# Altium integrated library Infineon_Power_MOSFET.IntLib: 1448 symbols (part 17 of 47)
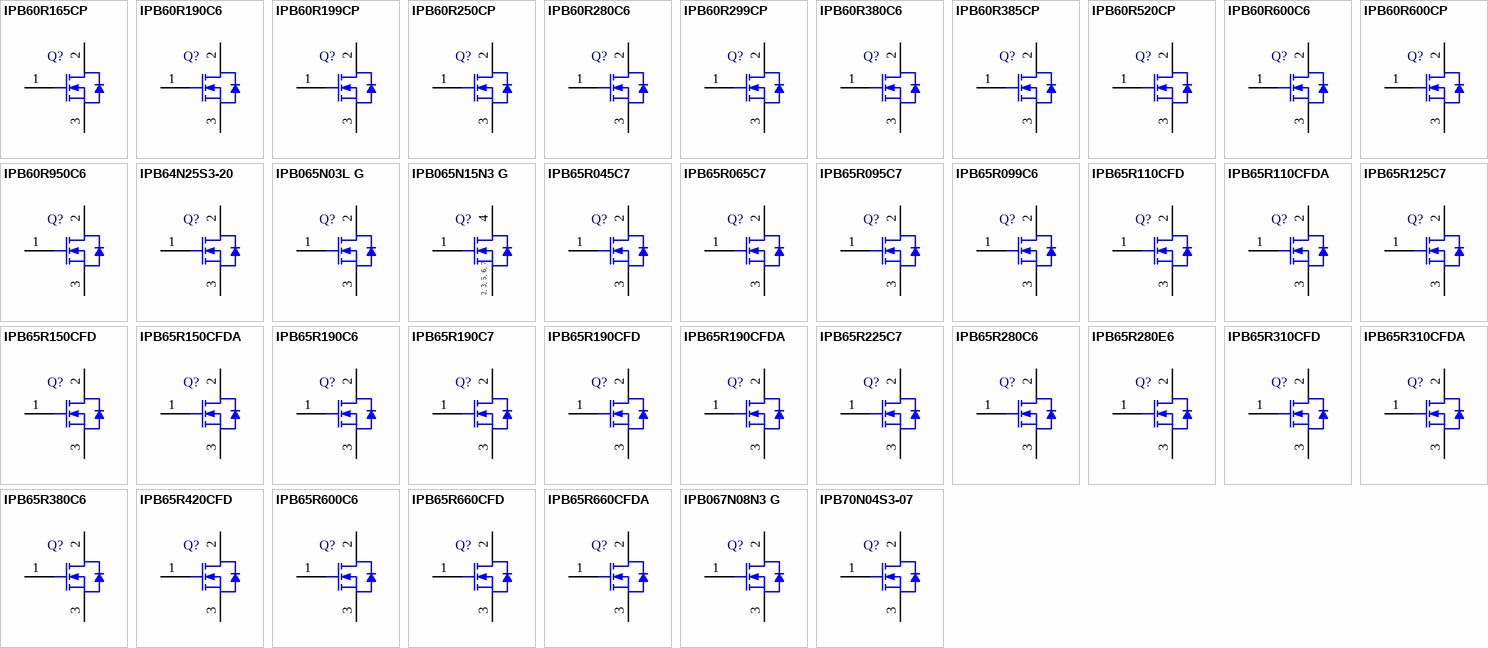
[diagram p53: symbols IPB60R165CP to IPB70N04S3-07]

## IPB60R600C6
designator Q?
N-Channel CoolMOS C6 Power-Transistor, 600 V VDS, 7.3 A ID, -55 to 150 degC, PG-TO263-3-2, Reel, Green; Manufacturer: Infineon; PartNumber: IPB60R600C6; Green: TRUE; ID (max): 7.3 A; IDpuls (max): 19 A; Polarity: N; Ptot (max): 63 W; QG: 20.5 nC; RDS (on) (max): 600 mOhm; Rth: 2 K/W; RthJA (max): 62 K/W; VDS (max): 600 V; VGS(th) (max): 3.5 V; VGS(th) (min): 2.5 V; DatasheetVersion: Rev. 2.0; PackageVersion: Jul-09; PackageReference: PG-TO263-3-2; PackageDescription: 3-Pin Plastic (Green) Transistor Single Outline Package, 10 x 9.25 mm Body, 2.54 mm Pitch; Supplier 1: Mouser; Supplier Part Number 1: 726-IPB60R600C6; Supplier 2: Digi-Key; Supplier Part Number 2: IPB60R600C6TR-ND; Supplier 3: Digi-Key; Supplier Part Number 3: IPB60R600C6CT-ND; Supplier 4: Digi-Key; Supplier Part Number 4: IPB60R600C6DKR-ND; Halogen-free: TRUE; Packing: Reel; RthJC (max): 2 K/W; Technology: CoolMOS C6; Mounting Technology: Surface Mount; ComponentLink1Description: Manufacturer URL; ComponentLink1URL: http://www.infineon.com/; ComponentLink2Description: Datasheet; ComponentLink2URL: http://www.infineon.com/dgdl/IPB60R600C6_2_0.pdf?folderId=db3a30431ff98815012019af55de3f2c&fileId=db3a30432239cccd0122977458e7441a; ComponentLink3Description: Package Specification; ComponentLink3URL: http://www.infineon.com/dgdl/BTS141TC_DS_10.pdf?folderId=db3a3043163797a6011667aa084c0e01&fileId=db3a3043242ebc9e01242f43f58b003e&location=en.Products.Automotive_ICs.Smart_High-_and_Low-Side_Switches.HITFET___TEMPFET__-_Smart_Low-Side_Switches.DATASHEET.BTS141TC_DS_10.pdf
footprint INF-PG-TO263-3-2_N (DPAK, 3-Leads, Body 10x9.25mm, Pitch 2.54mm, IPC Medium Density)
footprint INF-PG-TO263-3-2_L (DPAK, 3-Leads, Body 10x9.25mm, Pitch 2.54mm, IPC High Density)
footprint INF-PG-TO263-3-2_M (DPAK, 3-Leads, Body 10x9.25mm, Pitch 2.54mm, IPC Low Density)
pins: 1 GATE, 2 DRAIN, 3 SOURCE

## IPB60R600CP
designator Q?
N-Channel CoolMOS Power-Transistor, 600 V VDS, 6.1 A ID, -55 to 150 degC, PG-TO263-3-2, Reel, Green; Manufacturer: Infineon; PartNumber: IPB60R600CP; Green: TRUE; ID (max): 6.1 A; IDpuls (max): 15 A; Polarity: N; Ptot (max): 60 W; QG: 21 nC; RDS (on) (max): 600 mOhm; Rth: 2.1 K/W; RthJA (max): 62 K/W; VDS (max): 600 V; VGS(th) (max): 3.5 V; VGS(th) (min): 2.5 V; DatasheetVersion: Rev. 2.0; PackageVersion: Jul-09; PackageReference: PG-TO263-3-2; PackageDescription: 3-Pin Plastic (Green) Transistor Single Outline Package, 10 x 9.25 mm Body, 2.54 mm Pitch; Supplier 1: Mouser; Supplier Part Number 1: 726-IPB60R600CP; Supplier 2: Newark; Supplier Part Number 2: 33P7140; Supplier 3: Farnell; Supplier Part Number 3: 1664023RL; Supplier 4: Farnell; Supplier Part Number 4: 1664023; Supplier 5: Digi-Key; Supplier Part Number 5: IPB60R600CPTR-ND; Supplier 6: Digi-Key; Supplier Part Number 6: IPB60R600CPCT-ND; Supplier 7: Digi-Key; Supplier Part Number 7: IPB60R600CPDKR-ND; Halogen-free: TRUE; Packing: Reel; RthJC (max): 2.1 K/W; Technology: CoolMOS CP; Mounting Technology: Surface Mount; ComponentLink1Description: Manufacturer URL; ComponentLink1URL: http://www.infineon.com/; ComponentLink2Description: Datasheet; ComponentLink2URL: http://www.infineon.com/dgdl/IPB60R600CP_rev2.0.pdf?folderId=db3a3043163797a6011637d4bae7003b&fileId=db3a3043183a95550118792f22ec0462; ComponentLink3Description: Package Specification; ComponentLink3URL: http://www.infineon.com/dgdl/BTS141TC_DS_10.pdf?folderId=db3a3043163797a6011667aa084c0e01&fileId=db3a3043242ebc9e01242f43f58b003e&location=en.Products.Automotive_ICs.Smart_High-_and_Low-Side_Switches.HITFET___TEMPFET__-_Smart_Low-Side_Switches.DATASHEET.BTS141TC_DS_10.pdf
footprint INF-PG-TO263-3-2_N (DPAK, 3-Leads, Body 10x9.25mm, Pitch 2.54mm, IPC Medium Density)
footprint INF-PG-TO263-3-2_L (DPAK, 3-Leads, Body 10x9.25mm, Pitch 2.54mm, IPC High Density)
footprint INF-PG-TO263-3-2_M (DPAK, 3-Leads, Body 10x9.25mm, Pitch 2.54mm, IPC Low Density)
pins: 1 GATE, 2 DRAIN, 3 SOURCE

## IPB60R950C6
designator Q?
N-Channel CoolMOS C6 Power-Transistor, 600 V VDS, 4.4 A ID, -55 to 150 degC, PG-TO263-3-1, Reel, Green; Manufacturer: Infineon; PartNumber: IPB60R950C6; Green: TRUE; ID (max): 4.4 A; IDpuls (max): 12 A; Polarity: N; Ptot (max): 37 W; QG: 13 nC; RDS (on) (max): 950 mOhm; Rth: 3.41 K/W; RthJA (max): 62 K/W; VDS (max): 600 V; VGS(th) (max): 3.5 V; VGS(th) (min): 2.5 V; DatasheetVersion: Rev. 2.1; PackageVersion: Jan-10; PackageReference: PG-TO263-3-1; PackageDescription: 3-Pin Plastic (Green) Transistor Single Outline Package, 10 x 9.25 mm Body, 2.54 mm Pitch; Supplier 1: Mouser; Supplier Part Number 1: 726-IPB60R950C6; Supplier 2: Farnell; Supplier Part Number 2: 1860809; Supplier 3: Digi-Key; Supplier Part Number 3: IPB60R950C6TR-ND; Supplier 4: Digi-Key; Supplier Part Number 4: IPB60R950C6CT-ND; Supplier 5: Digi-Key; Supplier Part Number 5: IPB60R950C6DKR-ND; Halogen-free: TRUE; Packing: Reel; RthJC (max): 3.41 K/W; Technology: CoolMOS C6; Mounting Technology: Surface Mount; ComponentLink1Description: Manufacturer URL; ComponentLink1URL: http://www.infineon.com/; ComponentLink2Description: Datasheet; ComponentLink2URL: http://www.infineon.com/dgdl/IPB60R950C6_2.1.pdf?folderId=db3a30431ff98815012019af55de3f2c&fileId=db3a30432239cccd0122a8282c217d66; ComponentLink3Description: Package Specification; ComponentLink3URL: http://www.infineon.com/dgdl/TLE42744_DS_11.pdf?folderId=db3a304318f3fe290118f5a433570040&fileId=db3a304327b897500128012ccafe37d2&sId=db3a30443d67b5ca013d83f7c0ea327b
footprint INF-PG-TO263-3-1_N (DPAK, 3-Leads, Body 10x9.25mm, Pitch 2.54mm, IPC Medium Density)
footprint INF-PG-TO263-3-1_L (DPAK, 3-Leads, Body 10x9.25mm, Pitch 2.54mm, IPC High Density)
footprint INF-PG-TO263-3-1_M (DPAK, 3-Leads, Body 10x9.25mm, Pitch 2.54mm, IPC Low Density)
pins: 1 GATE, 2 DRAIN, 3 SOURCE

## IPB64N25S3-20
designator Q?
OptiMOS-T Power-Transistor, 250 V VDS, 64 A ID, PG-TO263-3-2, Green; Manufacturer: Infineon; PartNumber: IPB64N25S3-20; Green: TRUE; ID (max): 64 A; IDpuls (max): 256 A; Ptot (max): 300 W; QG: 67 nC; RDS (on) (max) (@10V): 20 mOhm; RthJC (max): 0.5 K/W; VDS (max): 250 V; VGS(th) (max): 4 V; VGS(th) (min): 2 V; DatasheetVersion: Rev. 1.0; PackageVersion: Jul-09; PackageReference: PG-TO263-3-2; PackageDescription: 3-Pin Plastic (Green) Transistor Single Outline Package, 10 x 9.25 mm Body, 2.54 mm Pitch; Supplier 1: Mouser; Supplier Part Number 1: 726-IPB64N25S3-20; Halogen-free: TRUE; Technology: OptiMOS-T; Mounting Technology: Surface Mount; ComponentLink1Description: Manufacturer URL; ComponentLink1URL: http://www.infineon.com/; ComponentLink2Description: Datasheet; ComponentLink2URL: http://www.infineon.com/dgdl/IPP_B_I64N25S3-20_DS_10.pdf?folderId=db3a30433b92f0e8013b9377b6270147&fileId=db3a30433b92f0e8013b937af6620149&location=en.Products.Automotive_ICs.Automotive_MOSFETs.Single__N-Channel_250V_MOSFETs.DATASHEET.IPP_B_I64N25S3-20_DS_10.pdf; ComponentLink3Description: Package Specification; ComponentLink3URL: http://www.infineon.com/dgdl/BTS141TC_DS_10.pdf?folderId=db3a3043163797a6011667aa084c0e01&fileId=db3a3043242ebc9e01242f43f58b003e&location=en.Products.Automotive_ICs.Smart_High-_and_Low-Side_Switches.HITFET___TEMPFET__-_Smart_Low-Side_Switches.DATASHEET.BTS141TC_DS_10.pdf
footprint INF-PG-TO263-3-2_N (DPAK, 3-Leads, Body 10x9.25mm, Pitch 2.54mm, IPC Medium Density)
footprint INF-PG-TO263-3-2_L (DPAK, 3-Leads, Body 10x9.25mm, Pitch 2.54mm, IPC High Density)
footprint INF-PG-TO263-3-2_M (DPAK, 3-Leads, Body 10x9.25mm, Pitch 2.54mm, IPC Low Density)
pins: 1 GATE, 2 DRAIN, 3 SOURCE

## IPB065N03L G
designator Q?
N-Channel OptiMOS 3 Power-Transistor, 30 V VDS, 50 A ID, -55 to 175 degC, PG-TO-263-3-2, Reel, Green; Manufacturer: Infineon; PartNumber: IPB065N03L G; Green: TRUE; ID (max): 50 A; IDpuls (max): 350 A; Polarity: N; Ptot (max): 56 W; QG: 23 nC; RDS (on) (max): 6.5 mOhm; RDS (on) (max) (@4.5V): 9.5 mOhm; Rth: 2.7 K/W; RthJA (max): 62 K/W; VDS (max): 30 V; VGS(th) (max): 2.2 V; VGS(th) (min): 1 V; DatasheetVersion: Rev. 2.0; PackageVersion: Rev. 01, 08/2007; PackageReference: PG-TO-263-3-2; PackageDescription: 3-Pin Plastic (Green) Transistor Single Outline Package, 10.06 x 8.98 mm Body, 2.54 mm Pitch; Supplier 1: Mouser; Supplier Part Number 1: 726-IPB065N03LG; Supplier 2: Newark; Supplier Part Number 2: 47W3466; Supplier 3: Farnell; Supplier Part Number 3: 2212897; Supplier 4: Digi-Key; Supplier Part Number 4: IPB065N03LGINTR-ND; Supplier 5: Digi-Key; Supplier Part Number 5: IPB065N03LGINCT-ND; Supplier 6: Digi-Key; Supplier Part Number 6: IPB065N03LGINDKR-ND; Halogen-free: TRUE; Packing: Reel; RthJC (max): 2.7 K/W; Mounting Technology: Surface Mount; ComponentLink1Description: Manufacturer URL; ComponentLink1URL: http://www.infineon.com/; ComponentLink2Description: Datasheet; ComponentLink2URL: http://www.infineon.com/dgdl/IPP065N03L_rev2.pdf?folderId=db3a30431441fb5d01148c401f250e27&fileId=db3a30431441fb5d011492371ebc0fe2; ComponentLink3Description: Package Specification; ComponentLink3URL: http://www.infineon.com/dgdl/IPB026N06N_Rev2.2.pdf?folderId=db3a304313b8b5a60113cee8763b02d7&fileId=db3a3043372d5cc8013754c7b2a74f7c
footprint INF-PG-TO-263-3-2_A_N (DPAK, 3-Leads, Body 10.06x8.98mm, Pitch 2.54mm, IPC Medium Density)
footprint INF-PG-TO-263-3-2_A_L (DPAK, 3-Leads, Body 10.06x8.98mm, Pitch 2.54mm, IPC High Density)
footprint INF-PG-TO-263-3-2_A_M (DPAK, 3-Leads, Body 10.06x8.98mm, Pitch 2.54mm, IPC Low Density)
pins: 1 GATE, 2 DRAIN, 3 SOURCE

## IPB065N15N3 G
designator Q?
N-Channel OptiMOS 3 Power-Transistor, 150 V VDS, 130 A ID, -55 to 175 degC, PG-TO-263-7-2, Reel, Green; Manufacturer: Infineon; PartNumber: IPB065N15N3 G; Green: TRUE; ID (max): 130 A; IDpuls (max): 520 A; Polarity: N; Ptot (max): 300 W; QG: 70 nC; RDS (on) (max): 6.5 mOhm; Rth: 0.5 K/W; RthJA (max): 62 K/W; VDS (max): 150 V; VGS(th) (max): 4 V; VGS(th) (min): 2 V; DatasheetVersion: Rev. 2.1; PackageVersion: Rev. 01, 11/2007; PackageReference: PG-TO-263-7-2; PackageDescription: 7-Pin Plastic (Green) Transistor Single Outline Package, 10.1 x 8.98 mm Body, 1.27 mm Pitch; Supplier 1: Digi-Key; Supplier Part Number 1: IPB065N15N3 GTR-ND; Supplier 2: Digi-Key; Supplier Part Number 2: IPB065N15N3 GCT-ND; Supplier 3: Digi-Key; Supplier Part Number 3: IPB065N15N3 GDKR-ND; Halogen-free: TRUE; Packing: Reel; RthJC (max): 0.5 K/W; Mounting Technology: Surface Mount; ComponentLink1Description: Manufacturer URL; ComponentLink1URL: http://www.infineon.com/; ComponentLink2Description: Datasheet; ComponentLink2URL: http://www.infineon.com/dgdl/IPB065N15N3+G_Rev2.1.pdf?folderId=db3a304326623792012669f6bee2224b&fileId=db3a30432662379201266a0379d1225c; ComponentLink3Description: Package Specification; ComponentLink3URL: http://www.infineon.com/dgdl/BTS621L1_20030922.pdf?folderId=db3a30431400ef68011421b54e2e0564&fileId=db3a304333227b5e0133258247c72ecc&sId=db3a30433d68e984013d8539603e0d72
footprint INF-PG-TO-263-7-2_N (DPAK, 7-Leads, Body 10.1x8.98mm, Pitch 1.27mm, IPC Medium Density)
footprint INF-PG-TO-263-7-2_L (DPAK, 7-Leads, Body 10.1x8.98mm, Pitch 1.27mm, IPC High Density)
footprint INF-PG-TO-263-7-2_M (DPAK, 7-Leads, Body 10.1x8.98mm, Pitch 1.27mm, IPC Low Density)
pins: 1 GATE, 2 SOURCE, 3 SOURCE, 4 DRAIN, 5 SOURCE, 6 SOURCE, 7 SOURCE
text: 2, 3, 5, 6, 7

## IPB65R045C7
designator Q?
N-Channel CoolMOS(TM) C7 Power Transistor, 650 V VDS, -55 to 150 degC, PG-TO263-3, Reel, Green; Manufacturer: Infineon; PartNumber: IPB65R045C7; Green: TRUE; Polarity: FALSE; RDS (on) (max): 45 mOhm; VDS (max): 650 V; DatasheetVersion: Rev. 2.1; PackageVersion: Rev. 01, 08/2007; PackageReference: PG-TO263-3-2_A; PackageDescription: 3-Pin Plastic (Green) Transistor Single Outline Package, 10.1 x 8.98 mm Body, 2.54 mm Pitch; Supplier 1: Mouser; Supplier Part Number 1: 726-IPB65R045C7; Halogen-free: TRUE; Packing: Reel; Mounting Technology: Surface Mount; ComponentLink1Description: Manufacturer URL; ComponentLink1URL: http://www.infineon.com/; ComponentLink2Description: Datasheet; ComponentLink2URL: http://www.infineon.com/dgdl/DS_IPB65R045C7_2_1.pdf?folderId=db3a3043163797a6011637d4bae7003b&fileId=db3a30433e78ea82013e790478550043; ComponentLink3Description: Package Specification; ComponentLink3URL: http://www.infineon.com/dgdl/IPI65R280E6_2_0.pdf?folderId=db3a3043163797a6011637d4bae7003b&fileId=5546d46145f1f3a4014618e6c4f81afe
footprint INF-PG-TO263-3-2_A_N (DPAK, 3-Leads, Body 10.1x8.98mm, Pitch 2.54mm, IPC Medium Density)
footprint INF-PG-TO263-3-2_A_L (DPAK, 3-Leads, Body 10.1x8.98mm, Pitch 2.54mm, IPC High Density)
footprint INF-PG-TO263-3-2_A_M (DPAK, 3-Leads, Body 10.1x8.98mm, Pitch 2.54mm, IPC Low Density)
pins: 1 GATE, 2 DRAIN, 3 SOURCE

## IPB65R065C7
designator Q?
N-Channel CoolMOS(TM) C7 Power Transistor, 650 V VDS, -55 to 150 degC, PG-TO263-3, Reel, Green; Manufacturer: Infineon; PartNumber: IPB65R065C7; Green: TRUE; Polarity: FALSE; RDS (on) (max): 65 mOhm; VDS (max): 650 V; DatasheetVersion: Rev. 2.0; PackageVersion: Rev. 01, 08/2007; PackageReference: PG-TO263-3-2_A; PackageDescription: 3-Pin Plastic (Green) Transistor Single Outline Package, 10.1 x 8.98 mm Body, 2.54 mm Pitch; Halogen-free: TRUE; Packing: Reel; Mounting Technology: Surface Mount; ComponentLink1Description: Manufacturer URL; ComponentLink1URL: http://www.infineon.com/; ComponentLink2Description: Datasheet; ComponentLink2URL: http://www.infineon.com/dgdl/DS_IPB65R065C7_2_0.pdf?folderId=db3a3043156fd5730115c736bcc70ff2&fileId=db3a304341e0aed001420483e2ab1788; ComponentLink3Description: Package Specification; ComponentLink3URL: http://www.infineon.com/dgdl/IPI65R280E6_2_0.pdf?folderId=db3a3043163797a6011637d4bae7003b&fileId=5546d46145f1f3a4014618e6c4f81afe
footprint INF-PG-TO263-3-2_A_N (DPAK, 3-Leads, Body 10.1x8.98mm, Pitch 2.54mm, IPC Medium Density)
footprint INF-PG-TO263-3-2_A_L (DPAK, 3-Leads, Body 10.1x8.98mm, Pitch 2.54mm, IPC High Density)
footprint INF-PG-TO263-3-2_A_M (DPAK, 3-Leads, Body 10.1x8.98mm, Pitch 2.54mm, IPC Low Density)
pins: 1 GATE, 2 DRAIN, 3 SOURCE

## IPB65R095C7
designator Q?
N-Channel CoolMOS(TM) C7 Power Transistor, 650 V VDS, -55 to 150 degC, PG-TO263-3, Reel, Green; Manufacturer: Infineon; PartNumber: IPB65R095C7; Green: TRUE; Polarity: FALSE; RDS (on) (max): 95 mOhm; VDS (max): 650 V; DatasheetVersion: Rev. 2.0; PackageVersion: Rev. 01, 08/2007; PackageReference: PG-TO263-3-2_A; PackageDescription: 3-Pin Plastic (Green) Transistor Single Outline Package, 10.1 x 8.98 mm Body, 2.54 mm Pitch; Halogen-free: TRUE; Packing: Reel; Mounting Technology: Surface Mount; ComponentLink1Description: Manufacturer URL; ComponentLink1URL: http://www.infineon.com/; ComponentLink2Description: Datasheet; ComponentLink2URL: http://www.infineon.com/dgdl/DS_IPB65R095C7_2_0.pdf?folderId=db3a3043163797a6011637d4bae7003b&fileId=db3a30434208e5fd0142092311ad00e6; ComponentLink3Description: Package Specification; ComponentLink3URL: http://www.infineon.com/dgdl/IPI65R280E6_2_0.pdf?folderId=db3a3043163797a6011637d4bae7003b&fileId=5546d46145f1f3a4014618e6c4f81afe
footprint INF-PG-TO263-3-2_A_N (DPAK, 3-Leads, Body 10.1x8.98mm, Pitch 2.54mm, IPC Medium Density)
footprint INF-PG-TO263-3-2_A_L (DPAK, 3-Leads, Body 10.1x8.98mm, Pitch 2.54mm, IPC High Density)
footprint INF-PG-TO263-3-2_A_M (DPAK, 3-Leads, Body 10.1x8.98mm, Pitch 2.54mm, IPC Low Density)
pins: 1 GATE, 2 DRAIN, 3 SOURCE

## IPB65R099C6
designator Q?
N-Channel CoolMOS C6 Power-Transistor, 650 V VDS, 38 A ID, -55 to 150 degC, PG-TO263-3-2, Reel, Green; Manufacturer: Infineon; PartNumber: IPB65R099C6; Green: TRUE; ID (max): 38 A; IDpuls (max): 115 A; Polarity: N; Ptot (max): 278 W; QG: 127 nC; RDS (on) (max): 99 mOhm; Rth: 0.45 K/W; RthJA (max): 62 K/W; VDS (max): 650 V; VGS(th) (max): 3.5 V; VGS(th) (min): 2.5 V; DatasheetVersion: Rev. 2.0; PackageVersion: Jul-09; PackageReference: PG-TO263-3-2; PackageDescription: 3-Pin Plastic (Green) Transistor Single Outline Package, 10 x 9.25 mm Body, 2.54 mm Pitch; Halogen-free: TRUE; Packing: Reel; RthJC (max): 0.45 K/W; Technology: CoolMOS C6; Mounting Technology: Surface Mount; ComponentLink1Description: Manufacturer URL; ComponentLink1URL: http://www.infineon.com/; ComponentLink2Description: Datasheet; ComponentLink2URL: http://www.infineon.com/dgdl/IPB65R099C6.pdf?folderId=db3a3043163797a6011637d4bae7003b&fileId=db3a3043341f67a10134410f8a40503d; ComponentLink3Description: Package Specification; ComponentLink3URL: http://www.infineon.com/dgdl/BTS141TC_DS_10.pdf?folderId=db3a3043163797a6011667aa084c0e01&fileId=db3a3043242ebc9e01242f43f58b003e&location=en.Products.Automotive_ICs.Smart_High-_and_Low-Side_Switches.HITFET___TEMPFET__-_Smart_Low-Side_Switches.DATASHEET.BTS141TC_DS_10.pdf
footprint INF-PG-TO263-3-2_N (DPAK, 3-Leads, Body 10x9.25mm, Pitch 2.54mm, IPC Medium Density)
footprint INF-PG-TO263-3-2_L (DPAK, 3-Leads, Body 10x9.25mm, Pitch 2.54mm, IPC High Density)
footprint INF-PG-TO263-3-2_M (DPAK, 3-Leads, Body 10x9.25mm, Pitch 2.54mm, IPC Low Density)
pins: 1 GATE, 2 DRAIN, 3 SOURCE

## IPB65R110CFD
designator Q?
N-Channel CoolMOS CFD2 Power-Transistor, 650 V VDS, 31.2 A ID, -55 to 150 degC, PG-TO263-3-2, Reel, Green; Manufacturer: Infineon; PartNumber: IPB65R110CFD; Green: TRUE; ID (max): 31.2 A; IDpuls (max): 99.6 A; Polarity: N; QG: 118 nC; RDS (on) (max): 110 mOhm; Rth: 0.45 K/W; RthJA (max): 62 K/W; VDS (max): 650 V; VGS(th) (max): 4.5 V; VGS(th) (min): 3.5 V; DatasheetVersion: Rev. 2.6; PackageVersion: Jul-09; PackageReference: PG-TO263-3-2; PackageDescription: 3-Pin Plastic (Green) Transistor Single Outline Package, 10 x 9.25 mm Body, 2.54 mm Pitch; Supplier 1: Mouser; Supplier Part Number 1: 726-IPB65R110CFD; Supplier 2: Digi-Key; Supplier Part Number 2: IPB65R110CFDTR-ND; Supplier 3: Digi-Key; Supplier Part Number 3: IPB65R110CFDCT-ND; Supplier 4: Digi-Key; Supplier Part Number 4: IPB65R110CFDDKR-ND; Halogen-free: TRUE; Packing: Reel; RthJC (max): 0.45 K/W; Technology: CoolMOS CFD2; Mounting Technology: Surface Mount; ComponentLink1Description: Manufacturer URL; ComponentLink1URL: http://www.infineon.com/; ComponentLink2Description: Datasheet; ComponentLink2URL: http://www.infineon.com/dgdl/DS_IPX65R110CFD_2_61.pdf?folderId=db3a3043156fd5730115c736bcc70ff2&fileId=db3a30433004641301306abd8e2041b1; ComponentLink3Description: Package Specification; ComponentLink3URL: http://www.infineon.com/dgdl/BTS141TC_DS_10.pdf?folderId=db3a3043163797a6011667aa084c0e01&fileId=db3a3043242ebc9e01242f43f58b003e&location=en.Products.Automotive_ICs.Smart_High-_and_Low-Side_Switches.HITFET___TEMPFET__-_Smart_Low-Side_Switches.DATASHEET.BTS141TC_DS_10.pdf
footprint INF-PG-TO263-3-2_N (DPAK, 3-Leads, Body 10x9.25mm, Pitch 2.54mm, IPC Medium Density)
footprint INF-PG-TO263-3-2_L (DPAK, 3-Leads, Body 10x9.25mm, Pitch 2.54mm, IPC High Density)
footprint INF-PG-TO263-3-2_M (DPAK, 3-Leads, Body 10x9.25mm, Pitch 2.54mm, IPC Low Density)
pins: 1 GATE, 2 DRAIN, 3 SOURCE

## IPB65R110CFDA
designator Q?
N-Channel CoolMOS CFDA Power-Transistor, 650 V VDS, 31.2 A ID, -40 to 150 degC, PG-TO263-3-2, Reel, Green; Manufacturer: Infineon; PartNumber: IPB65R110CFDA; Green: TRUE; ID (max): 31.2 A; IDpuls (max): 99.6 A; Polarity: N; Ptot (max): 277.8 W; QG: 118 nC; RDS (on) (max): 110 mOhm; Rth: 0.45 K/W; RthJA (max): 62 K/W; VDS (max): 650 V; VGS(th) (max): 4.5 V; VGS(th) (min): 3.5 V; DatasheetVersion: Rev. 2.0; PackageVersion: Jul-09; PackageReference: PG-TO263-3-2; PackageDescription: 3-Pin Plastic (Green) Transistor Single Outline Package, 10 x 9.25 mm Body, 2.54 mm Pitch; Halogen-free: TRUE; Packing: Reel; RthJC (max): 0.45 K/W; Technology: CoolMOS CFDA; Mounting Technology: Surface Mount; ComponentLink1Description: Manufacturer URL; ComponentLink1URL: http://www.infineon.com/; ComponentLink2Description: Datasheet; ComponentLink2URL: http://www.infineon.com/dgdl/DS_IPX65R110CFDA_2_0.pdf?folderId=db3a3043163797a6011637d4bae7003b&fileId=db3a304336797ff90136ba7c820925a5; ComponentLink3Description: Package Specification; ComponentLink3URL: http://www.infineon.com/dgdl/BTS141TC_DS_10.pdf?folderId=db3a3043163797a6011667aa084c0e01&fileId=db3a3043242ebc9e01242f43f58b003e&location=en.Products.Automotive_ICs.Smart_High-_and_Low-Side_Switches.HITFET___TEMPFET__-_Smart_Low-Side_Switches.DATASHEET.BTS141TC_DS_10.pdf
footprint INF-PG-TO263-3-2_N (DPAK, 3-Leads, Body 10x9.25mm, Pitch 2.54mm, IPC Medium Density)
footprint INF-PG-TO263-3-2_L (DPAK, 3-Leads, Body 10x9.25mm, Pitch 2.54mm, IPC High Density)
footprint INF-PG-TO263-3-2_M (DPAK, 3-Leads, Body 10x9.25mm, Pitch 2.54mm, IPC Low Density)
pins: 1 GATE, 2 DRAIN, 3 SOURCE

## IPB65R125C7
designator Q?
N-Channel CoolMOS(TM) C7 Power Transistor, 650 V VDS, -55 to 150 degC, PG-TO263-3, Reel, Green; Manufacturer: Infineon; PartNumber: IPB65R125C7; Green: TRUE; Polarity: FALSE; RDS (on) (max): 125 mOhm; VDS (max): 650 V; DatasheetVersion: Rev. 2.0; PackageVersion: Rev. 01, 08/2007; PackageReference: PG-TO263-3-2_A; PackageDescription: 3-Pin Plastic (Green) Transistor Single Outline Package, 10.1 x 8.98 mm Body, 2.54 mm Pitch; Halogen-free: TRUE; Packing: Reel; Mounting Technology: Surface Mount; ComponentLink1Description: Manufacturer URL; ComponentLink1URL: http://www.infineon.com/; ComponentLink2Description: Datasheet; ComponentLink2URL: http://www.infineon.com/dgdl/DS_IPB65R125C7_2_0.pdf?folderId=db3a3043163797a6011637d4bae7003b&fileId=db3a30434208e5fd0142094d378001a5; ComponentLink3Description: Package Specification; ComponentLink3URL: http://www.infineon.com/dgdl/IPI65R280E6_2_0.pdf?folderId=db3a3043163797a6011637d4bae7003b&fileId=5546d46145f1f3a4014618e6c4f81afe
footprint INF-PG-TO263-3-2_A_N (DPAK, 3-Leads, Body 10.1x8.98mm, Pitch 2.54mm, IPC Medium Density)
footprint INF-PG-TO263-3-2_A_L (DPAK, 3-Leads, Body 10.1x8.98mm, Pitch 2.54mm, IPC High Density)
footprint INF-PG-TO263-3-2_A_M (DPAK, 3-Leads, Body 10.1x8.98mm, Pitch 2.54mm, IPC Low Density)
pins: 1 GATE, 2 DRAIN, 3 SOURCE

## IPB65R150CFD
designator Q?
N-Channel CoolMOS CFD2 Power-Transistor, 650 V VDS, 22.4 A ID, -55 to 150 degC, PG-TO263-3-2, Reel, Green; Manufacturer: Infineon; PartNumber: IPB65R150CFD; Green: TRUE; ID (max): 22.4 A; IDpuls (max): 72 A; Polarity: N; Ptot (max): 195.3 W; QG: 86 nC; RDS (on) (max): 150 mOhm; Rth: 0.64 K/W; RthJA (max): 62 K/W; VDS (max): 650 V; VGS(th) (max): 4.5 V; VGS(th) (min): 3.5 V; DatasheetVersion: Rev. 2.0; PackageVersion: Jul-09; PackageReference: PG-TO263-3-2; PackageDescription: 3-Pin Plastic (Green) Transistor Single Outline Package, 10 x 9.25 mm Body, 2.54 mm Pitch; Halogen-free: TRUE; Packing: Reel; RthJC (max): 0.64 K/W; Technology: CoolMOS CFD2; Mounting Technology: Surface Mount; ComponentLink1Description: Manufacturer URL; ComponentLink1URL: http://www.infineon.com/; ComponentLink2Description: Datasheet; ComponentLink2URL: http://www.infineon.com/dgdl/DS_IPX65R150CFD__2_01.pdf?folderId=db3a3043156fd5730115c736bcc70ff2&fileId=db3a3043338c8ac80133ace218433063; ComponentLink3Description: Package Specification; ComponentLink3URL: http://www.infineon.com/dgdl/BTS141TC_DS_10.pdf?folderId=db3a3043163797a6011667aa084c0e01&fileId=db3a3043242ebc9e01242f43f58b003e&location=en.Products.Automotive_ICs.Smart_High-_and_Low-Side_Switches.HITFET___TEMPFET__-_Smart_Low-Side_Switches.DATASHEET.BTS141TC_DS_10.pdf
footprint INF-PG-TO263-3-2_N (DPAK, 3-Leads, Body 10x9.25mm, Pitch 2.54mm, IPC Medium Density)
footprint INF-PG-TO263-3-2_L (DPAK, 3-Leads, Body 10x9.25mm, Pitch 2.54mm, IPC High Density)
footprint INF-PG-TO263-3-2_M (DPAK, 3-Leads, Body 10x9.25mm, Pitch 2.54mm, IPC Low Density)
pins: 1 GATE, 2 DRAIN, 3 SOURCE

## IPB65R150CFDA
designator Q?
N-Channel CoolMOS CFDA Power-Transistor, 650 V VDS, 22.4 A ID, -40 to 150 degC, PG-TO263-3-2, Reel, Green; Manufacturer: Infineon; PartNumber: IPB65R150CFDA; Green: TRUE; ID (max): 22.4 A; IDpuls (max): 72 A; Polarity: N; Ptot (max): 195.3 W; QG: 86 nC; RDS (on) (max): 150 mOhm; Rth: 0.64 K/W; RthJA (max): 62 K/W; VDS (max): 650 V; VGS(th) (max): 4.5 V; VGS(th) (min): 3.5 V; DatasheetVersion: Rev. 2.0; PackageVersion: Jul-09; PackageReference: PG-TO263-3-2; PackageDescription: 3-Pin Plastic (Green) Transistor Single Outline Package, 10 x 9.25 mm Body, 2.54 mm Pitch; Halogen-free: TRUE; Packing: Reel; RthJC (max): 0.64 K/W; Technology: CoolMOS CFDA; Mounting Technology: Surface Mount; ComponentLink1Description: Manufacturer URL; ComponentLink1URL: http://www.infineon.com/; ComponentLink2Description: Datasheet; ComponentLink2URL: http://www.infineon.com/dgdl/DS_IPX65R150CFDA_final+2.0.pdf?folderId=db3a3043156fd5730115c736bcc70ff2&fileId=db3a3043399628450139af71b2a12046; ComponentLink3Description: Package Specification; ComponentLink3URL: http://www.infineon.com/dgdl/BTS141TC_DS_10.pdf?folderId=db3a3043163797a6011667aa084c0e01&fileId=db3a3043242ebc9e01242f43f58b003e&location=en.Products.Automotive_ICs.Smart_High-_and_Low-Side_Switches.HITFET___TEMPFET__-_Smart_Low-Side_Switches.DATASHEET.BTS141TC_DS_10.pdf
footprint INF-PG-TO263-3-2_N (DPAK, 3-Leads, Body 10x9.25mm, Pitch 2.54mm, IPC Medium Density)
footprint INF-PG-TO263-3-2_L (DPAK, 3-Leads, Body 10x9.25mm, Pitch 2.54mm, IPC High Density)
footprint INF-PG-TO263-3-2_M (DPAK, 3-Leads, Body 10x9.25mm, Pitch 2.54mm, IPC Low Density)
pins: 1 GATE, 2 DRAIN, 3 SOURCE

## IPB65R190C6
designator Q?
N-Channel CoolMOS C6 Power-Transistor, 650 V VDS, 20.2 A ID, -55 to 150 degC, PG-TO263-3-1, Reel, Green; Manufacturer: Infineon; PartNumber: IPB65R190C6; Green: TRUE; ID (max): 20.2 A; IDpuls (max): 66 A; Polarity: N; Ptot (max): 151 W; QG: 73 nC; RDS (on) (max): 190 mOhm; Rth: 0.83 K/W; RthJA (max): 62 K/W; VDS (max): 650 V; VGS(th) (max): 3.5 V; VGS(th) (min): 2.5 V; DatasheetVersion: Rev. 2.0; PackageVersion: Jan-10; PackageReference: PG-TO263-3-1; PackageDescription: 3-Pin Plastic (Green) Transistor Single Outline Package, 10 x 9.25 mm Body, 2.54 mm Pitch; Supplier 1: Mouser; Supplier Part Number 1: 726-IPB65R190C6; Supplier 2: Digi-Key; Supplier Part Number 2: IPB65R190C6TR-ND; Supplier 3: Digi-Key; Supplier Part Number 3: IPB65R190C6CT-ND; Supplier 4: Digi-Key; Supplier Part Number 4: IPB65R190C6DKR-ND; Halogen-free: TRUE; Packing: Reel; RthJC (max): 0.83 K/W; Technology: CoolMOS C6; Mounting Technology: Surface Mount; ComponentLink1Description: Manufacturer URL; ComponentLink1URL: http://www.infineon.com/; ComponentLink2Description: Datasheet; ComponentLink2URL: http://www.infineon.com/dgdl/IPB65R190C6_2_0.pdf?folderId=db3a3043156fd5730115c736bcc70ff2&fileId=db3a3043300464130130079301853bfc; ComponentLink3Description: Package Specification; ComponentLink3URL: http://www.infineon.com/dgdl/TLE42744_DS_11.pdf?folderId=db3a304318f3fe290118f5a433570040&fileId=db3a304327b897500128012ccafe37d2&sId=db3a30443d67b5ca013d83f7c0ea327b
footprint INF-PG-TO263-3-1_N (DPAK, 3-Leads, Body 10x9.25mm, Pitch 2.54mm, IPC Medium Density)
footprint INF-PG-TO263-3-1_L (DPAK, 3-Leads, Body 10x9.25mm, Pitch 2.54mm, IPC High Density)
footprint INF-PG-TO263-3-1_M (DPAK, 3-Leads, Body 10x9.25mm, Pitch 2.54mm, IPC Low Density)
pins: 1 GATE, 2 DRAIN, 3 SOURCE

## IPB65R190C7
designator Q?
N-Channel CoolMOS(TM) C7 Power Transistor, 650 V VDS, -55 to 150 degC, PG-TO263-3, Reel, Green; Manufacturer: Infineon; PartNumber: IPB65R190C7; Green: TRUE; Polarity: FALSE; RDS (on) (max): 190 mOhm; VDS (max): 650 V; DatasheetVersion: Rev. 2.1; PackageVersion: Rev. 01, 08/2007; PackageReference: PG-TO263-3-2_A; PackageDescription: 3-Pin Plastic (Green) Transistor Single Outline Package, 10.1 x 8.98 mm Body, 2.54 mm Pitch; Halogen-free: TRUE; Packing: Reel; Mounting Technology: Surface Mount; ComponentLink1Description: Manufacturer URL; ComponentLink1URL: http://www.infineon.com/; ComponentLink2Description: Datasheet; ComponentLink2URL: http://www.infineon.com/dgdl/DS_IPB65R190C7_2_1.pdf?folderId=db3a3043163797a6011637d4bae7003b&fileId=db3a30434208e5fd0142095ff92801d1; ComponentLink3Description: Package Specification; ComponentLink3URL: http://www.infineon.com/dgdl/IPI65R280E6_2_0.pdf?folderId=db3a3043163797a6011637d4bae7003b&fileId=5546d46145f1f3a4014618e6c4f81afe
footprint INF-PG-TO263-3-2_A_N (DPAK, 3-Leads, Body 10.1x8.98mm, Pitch 2.54mm, IPC Medium Density)
footprint INF-PG-TO263-3-2_A_L (DPAK, 3-Leads, Body 10.1x8.98mm, Pitch 2.54mm, IPC High Density)
footprint INF-PG-TO263-3-2_A_M (DPAK, 3-Leads, Body 10.1x8.98mm, Pitch 2.54mm, IPC Low Density)
pins: 1 GATE, 2 DRAIN, 3 SOURCE

## IPB65R190CFD
designator Q?
N-Channel CoolMOS C6 CFD Power-Transistor, 650 V VDS, 17.5 A ID, -55 to 150 degC, PG-TO263-3-2, Reel, Green; Manufacturer: Infineon; PartNumber: IPB65R190CFD; Green: TRUE; ID (max): 17.5 A; IDpuls (max): 57.2 A; Polarity: N; Ptot (max): 151 W; QG: 68 nC; RDS (on) (max): 190 mOhm; Rth: 0.83 K/W; RthJA (max): 62 K/W; VDS (max): 650 V; VGS(th) (max): 4.5 V; VGS(th) (min): 3.5 V; DatasheetVersion: Rev. 2.2; PackageVersion: Jul-09; PackageReference: PG-TO263-3-2; PackageDescription: 3-Pin Plastic (Green) Transistor Single Outline Package, 10 x 9.25 mm Body, 2.54 mm Pitch; Supplier 1: Mouser; Supplier Part Number 1: 726-IPB65R190CFD; Supplier 2: Digi-Key; Supplier Part Number 2: IPB65R190CFDTR-ND; Supplier 3: Digi-Key; Supplier Part Number 3: IPB65R190CFDCT-ND; Supplier 4: Digi-Key; Supplier Part Number 4: IPB65R190CFDDKR-ND; Halogen-free: TRUE; Packing: Reel; RthJC (max): 0.83 K/W; Technology: CoolMOS CFD2; Mounting Technology: Surface Mount; ComponentLink1Description: Manufacturer URL; ComponentLink1URL: http://www.infineon.com/; ComponentLink2Description: Datasheet; ComponentLink2URL: http://www.infineon.com/dgdl/DS_IPX65R190CFD__2_2.pdf?folderId=db3a3043163797a6011637d4bae7003b&fileId=db3a30432fd0c54a012fded065a8309b; ComponentLink3Description: Package Specification; ComponentLink3URL: http://www.infineon.com/dgdl/BTS141TC_DS_10.pdf?folderId=db3a3043163797a6011667aa084c0e01&fileId=db3a3043242ebc9e01242f43f58b003e&location=en.Products.Automotive_ICs.Smart_High-_and_Low-Side_Switches.HITFET___TEMPFET__-_Smart_Low-Side_Switches.DATASHEET.BTS141TC_DS_10.pdf
footprint INF-PG-TO263-3-2_N (DPAK, 3-Leads, Body 10x9.25mm, Pitch 2.54mm, IPC Medium Density)
footprint INF-PG-TO263-3-2_L (DPAK, 3-Leads, Body 10x9.25mm, Pitch 2.54mm, IPC High Density)
footprint INF-PG-TO263-3-2_M (DPAK, 3-Leads, Body 10x9.25mm, Pitch 2.54mm, IPC Low Density)
pins: 1 GATE, 2 DRAIN, 3 SOURCE

## IPB65R190CFDA
designator Q?
N-Channel CoolMOS CFDA power-Transistor, 650 V VDS, 17.5 A ID, -40 to 150 degC, PG-TO263-3-2, Reel, Green; Manufacturer: Infineon; PartNumber: IPB65R190CFDA; Green: TRUE; ID (max): 17.5 A; IDpuls (max): 57.2 A; Polarity: N; Ptot (max): 151 W; QG: 68 nC; RDS (on) (max): 190 mOhm; Rth: 0.83 K/W; RthJA (max): 62 K/W; VDS (max): 650 V; VGS(th) (max): 4.5 V; VGS(th) (min): 3.5 V; DatasheetVersion: Rev. 2.0; PackageVersion: Jul-09; PackageReference: PG-TO263-3-2; PackageDescription: 3-Pin Plastic (Green) Transistor Single Outline Package, 10 x 9.25 mm Body, 2.54 mm Pitch; Halogen-free: TRUE; Packing: Reel; RthJC (max): 0.83 K/W; Technology: CoolMOS CFDA; Mounting Technology: Surface Mount; ComponentLink1Description: Manufacturer URL; ComponentLink1URL: http://www.infineon.com/; ComponentLink2Description: Datasheet; ComponentLink2URL: http://www.infineon.com/dgdl/DS_IPX65R190CFDA_final+2.0.pdf?folderId=db3a3043156fd5730115c736bcc70ff2&fileId=db3a3043399628450139afa2346920a1; ComponentLink3Description: Package Specification; ComponentLink3URL: http://www.infineon.com/dgdl/BTS141TC_DS_10.pdf?folderId=db3a3043163797a6011667aa084c0e01&fileId=db3a3043242ebc9e01242f43f58b003e&location=en.Products.Automotive_ICs.Smart_High-_and_Low-Side_Switches.HITFET___TEMPFET__-_Smart_Low-Side_Switches.DATASHEET.BTS141TC_DS_10.pdf
footprint INF-PG-TO263-3-2_N (DPAK, 3-Leads, Body 10x9.25mm, Pitch 2.54mm, IPC Medium Density)
footprint INF-PG-TO263-3-2_L (DPAK, 3-Leads, Body 10x9.25mm, Pitch 2.54mm, IPC High Density)
footprint INF-PG-TO263-3-2_M (DPAK, 3-Leads, Body 10x9.25mm, Pitch 2.54mm, IPC Low Density)
pins: 1 GATE, 2 DRAIN, 3 SOURCE

## IPB65R225C7
designator Q?
N-Channel CoolMOS(TM) C7 Power Transistor, 650 V VDS, -55 to 150 degC, PG-TO263-3, Reel, Green; Manufacturer: Infineon; PartNumber: IPB65R225C7; Green: TRUE; Polarity: FALSE; RDS (on) (max): 225 mOhm; VDS (max): 650 V; DatasheetVersion: Rev. 2.0; PackageVersion: Rev. 01, 08/2007; PackageReference: PG-TO263-3-2_A; PackageDescription: 3-Pin Plastic (Green) Transistor Single Outline Package, 10.1 x 8.98 mm Body, 2.54 mm Pitch; Halogen-free: TRUE; Packing: Reel; Mounting Technology: Surface Mount; ComponentLink1Description: Manufacturer URL; ComponentLink1URL: http://www.infineon.com/; ComponentLink2Description: Datasheet; ComponentLink2URL: http://www.infineon.com/dgdl/DS_IPB65R225C7_2_0.pdf?folderId=db3a3043163797a6011637d4bae7003b&fileId=db3a30433e78ea82013e7921c0d800bc; ComponentLink3Description: Package Specification; ComponentLink3URL: http://www.infineon.com/dgdl/IPI65R280E6_2_0.pdf?folderId=db3a3043163797a6011637d4bae7003b&fileId=5546d46145f1f3a4014618e6c4f81afe
footprint INF-PG-TO263-3-2_A_N (DPAK, 3-Leads, Body 10.1x8.98mm, Pitch 2.54mm, IPC Medium Density)
footprint INF-PG-TO263-3-2_A_L (DPAK, 3-Leads, Body 10.1x8.98mm, Pitch 2.54mm, IPC High Density)
footprint INF-PG-TO263-3-2_A_M (DPAK, 3-Leads, Body 10.1x8.98mm, Pitch 2.54mm, IPC Low Density)
pins: 1 GATE, 2 DRAIN, 3 SOURCE

## IPB65R280C6
designator Q?
N-Channel CoolMOS C6 Power-Transistor, 650 V VDS, 13.8 A ID, -55 to 150 degC, PG-TO263-3-2, Reel, Green; Manufacturer: Infineon; PartNumber: IPB65R280C6; Green: TRUE; ID (max): 13.8 A; IDpuls (max): 39 A; Polarity: N; Ptot (max): 104 W; QG: 45 nC; RDS (on) (max): 280 mOhm; Rth: 1.2 K/W; RthJA (max): 62 K/W; VDS (max): 650 V; VGS(th) (max): 3.5 V; VGS(th) (min): 2.5 V; DatasheetVersion: Rev. 2.0; PackageVersion: Jul-09; PackageReference: PG-TO263-3-2; PackageDescription: 3-Pin Plastic (Green) Transistor Single Outline Package, 10 x 9.25 mm Body, 2.54 mm Pitch; Supplier 1: Mouser; Supplier Part Number 1: 726-IPB65R280C6; Supplier 2: Digi-Key; Supplier Part Number 2: IPB65R280C6TR-ND; Supplier 3: Digi-Key; Supplier Part Number 3: IPB65R280C6CT-ND; Supplier 4: Digi-Key; Supplier Part Number 4: IPB65R280C6DKR-ND; Halogen-free: TRUE; Packing: Reel; RthJC (max): 1.2 K/W; Technology: CoolMOS C6; Mounting Technology: Surface Mount; ComponentLink1Description: Manufacturer URL; ComponentLink1URL: http://www.infineon.com/; ComponentLink2Description: Datasheet; ComponentLink2URL: http://www.infineon.com/dgdl/IPB65R280C6_2_0.pdf?folderId=db3a3043156fd5730115c736bcc70ff2&fileId=db3a30432a7fedfc012a8a83f81458ab; ComponentLink3Description: Package Specification; ComponentLink3URL: http://www.infineon.com/dgdl/BTS141TC_DS_10.pdf?folderId=db3a3043163797a6011667aa084c0e01&fileId=db3a3043242ebc9e01242f43f58b003e&location=en.Products.Automotive_ICs.Smart_High-_and_Low-Side_Switches.HITFET___TEMPFET__-_Smart_Low-Side_Switches.DATASHEET.BTS141TC_DS_10.pdf
footprint INF-PG-TO263-3-2_N (DPAK, 3-Leads, Body 10x9.25mm, Pitch 2.54mm, IPC Medium Density)
footprint INF-PG-TO263-3-2_L (DPAK, 3-Leads, Body 10x9.25mm, Pitch 2.54mm, IPC High Density)
footprint INF-PG-TO263-3-2_M (DPAK, 3-Leads, Body 10x9.25mm, Pitch 2.54mm, IPC Low Density)
pins: 1 GATE, 2 DRAIN, 3 SOURCE

## IPB65R280E6
designator Q?
N-Channel CoolMOS E6 Power-Transistor, 650 V VDS, 13.8 A ID, -55 to 150 degC, PG-TO263-3-2, Reel, Green; Manufacturer: Infineon; PartNumber: IPB65R280E6; Green: TRUE; ID (max): 13.8 A; IDpuls (max): 39 A; Polarity: N; Ptot (max): 104 W; QG: 45 nC; RDS (on) (max): 280 mOhm; Rth: 1.2 K/W; RthJA (max): 62 K/W; VDS (max): 650 V; VGS(th) (max): 3.5 V; VGS(th) (min): 2.5 V; DatasheetVersion: Rev. 2.0; PackageVersion: Jul-09; PackageReference: PG-TO263-3-2; PackageDescription: 3-Pin Plastic (Green) Transistor Single Outline Package, 10 x 9.25 mm Body, 2.54 mm Pitch; Supplier 1: Mouser; Supplier Part Number 1: 726-IPB65R280E6; Halogen-free: TRUE; Packing: Reel; RthJC (max): 1.2 K/W; Technology: CoolMOS E6; Mounting Technology: Surface Mount; ComponentLink1Description: Manufacturer URL; ComponentLink1URL: http://www.infineon.com/; ComponentLink2Description: Datasheet; ComponentLink2URL: http://www.infineon.com/dgdl/IPB65R280E6_2_0.pdf?folderId=db3a3043163797a6011637d4bae7003b&fileId=db3a30432ea425a4012ede130fa67128; ComponentLink3Description: Package Specification; ComponentLink3URL: http://www.infineon.com/dgdl/BTS141TC_DS_10.pdf?folderId=db3a3043163797a6011667aa084c0e01&fileId=db3a3043242ebc9e01242f43f58b003e&location=en.Products.Automotive_ICs.Smart_High-_and_Low-Side_Switches.HITFET___TEMPFET__-_Smart_Low-Side_Switches.DATASHEET.BTS141TC_DS_10.pdf
footprint INF-PG-TO263-3-2_N (DPAK, 3-Leads, Body 10x9.25mm, Pitch 2.54mm, IPC Medium Density)
footprint INF-PG-TO263-3-2_L (DPAK, 3-Leads, Body 10x9.25mm, Pitch 2.54mm, IPC High Density)
footprint INF-PG-TO263-3-2_M (DPAK, 3-Leads, Body 10x9.25mm, Pitch 2.54mm, IPC Low Density)
pins: 1 GATE, 2 DRAIN, 3 SOURCE

## IPB65R310CFD
designator Q?
N-Channel CoolMOS CFD2 Power-Transistor, 650 V VDS, 11.4 A ID, -55 to 150 degC, PG-TO263-3-2, Reel, Green; Manufacturer: Infineon; PartNumber: IPB65R310CFD; Green: TRUE; ID (max): 11.4 A; IDpuls (max): 34.4 A; Polarity: N; QG: 41 nC; RDS (on) (max): 310 mOhm; Rth: 1.2 K/W; RthJA (max): 62 K/W; VDS (max): 650 V; VGS(th) (max): 4.5 V; VGS(th) (min): 3.5 V; DatasheetVersion: Rev. 2.3; PackageVersion: Jul-09; PackageReference: PG-TO263-3-2; PackageDescription: 3-Pin Plastic (Green) Transistor Single Outline Package, 10 x 9.25 mm Body, 2.54 mm Pitch; Supplier 1: Mouser; Supplier Part Number 1: 726-IPB65R310CFD; Supplier 2: Digi-Key; Supplier Part Number 2: IPB65R310CFDTR-ND; Supplier 3: Digi-Key; Supplier Part Number 3: IPB65R310CFDCT-ND; Supplier 4: Digi-Key; Supplier Part Number 4: IPB65R310CFDDKR-ND; Halogen-free: TRUE; Packing: Reel; RthJC (max): 1.2 K/W; Technology: CoolMOS CFD2; Mounting Technology: Surface Mount; ComponentLink1Description: Manufacturer URL; ComponentLink1URL: http://www.infineon.com/; ComponentLink2Description: Datasheet; ComponentLink2URL: http://www.infineon.com/dgdl/DS_IPX65R310CFD__2_3.pdf?folderId=db3a3043163797a6011637d4bae7003b&fileId=db3a30432f91014f012f9caff105741c; ComponentLink3Description: Package Specification; ComponentLink3URL: http://www.infineon.com/dgdl/BTS141TC_DS_10.pdf?folderId=db3a3043163797a6011667aa084c0e01&fileId=db3a3043242ebc9e01242f43f58b003e&location=en.Products.Automotive_ICs.Smart_High-_and_Low-Side_Switches.HITFET___TEMPFET__-_Smart_Low-Side_Switches.DATASHEET.BTS141TC_DS_10.pdf
footprint INF-PG-TO263-3-2_N (DPAK, 3-Leads, Body 10x9.25mm, Pitch 2.54mm, IPC Medium Density)
footprint INF-PG-TO263-3-2_L (DPAK, 3-Leads, Body 10x9.25mm, Pitch 2.54mm, IPC High Density)
footprint INF-PG-TO263-3-2_M (DPAK, 3-Leads, Body 10x9.25mm, Pitch 2.54mm, IPC Low Density)
pins: 1 GATE, 2 DRAIN, 3 SOURCE

## IPB65R310CFDA
designator Q?
N-Channel CoolMOS CFDA Power Transistor, 650 V VDS, 11.4 A ID, -40 to 150 degC, PG-TO263-3-2, Reel, Green; Manufacturer: Infineon; PartNumber: IPB65R310CFDA; Green: TRUE; ID (max): 11.4 A; IDpuls (max): 34.4 A; Polarity: N; Ptot (max): 104.2 W; QG: 41 nC; RDS (on) (max): 310 mOhm; Rth: 1.2 K/W; RthJA (max): 62 K/W; VDS (max): 650 V; VGS(th) (max): 4.5 V; VGS(th) (min): 3.5 V; DatasheetVersion: Rev. 2.0; PackageVersion: Jul-09; PackageReference: PG-TO263-3-2; PackageDescription: 3-Pin Plastic (Green) Transistor Single Outline Package, 10 x 9.25 mm Body, 2.54 mm Pitch; Halogen-free: TRUE; Packing: Reel; RthJC (max): 1.2 K/W; Technology: CoolMOS CFDA; Mounting Technology: Surface Mount; ComponentLink1Description: Manufacturer URL; ComponentLink1URL: http://www.infineon.com/; ComponentLink2Description: Datasheet; ComponentLink2URL: http://www.infineon.com/dgdl/DS_IPX65R310CFDA_2_0.pdf?folderId=db3a3043163797a6011637d4bae7003b&fileId=db3a304336797ff90136bafdd723265d; ComponentLink3Description: Package Specification; ComponentLink3URL: http://www.infineon.com/dgdl/BTS141TC_DS_10.pdf?folderId=db3a3043163797a6011667aa084c0e01&fileId=db3a3043242ebc9e01242f43f58b003e&location=en.Products.Automotive_ICs.Smart_High-_and_Low-Side_Switches.HITFET___TEMPFET__-_Smart_Low-Side_Switches.DATASHEET.BTS141TC_DS_10.pdf
footprint INF-PG-TO263-3-2_N (DPAK, 3-Leads, Body 10x9.25mm, Pitch 2.54mm, IPC Medium Density)
footprint INF-PG-TO263-3-2_L (DPAK, 3-Leads, Body 10x9.25mm, Pitch 2.54mm, IPC High Density)
footprint INF-PG-TO263-3-2_M (DPAK, 3-Leads, Body 10x9.25mm, Pitch 2.54mm, IPC Low Density)
pins: 1 GATE, 2 DRAIN, 3 SOURCE

## IPB65R380C6
designator Q?
N-Channel CoolMOS C6 Power-Transistor, 650 V VDS, 10.6 A ID, -55 to 150 degC, PG-TO263-3-2, Reel, Green; Manufacturer: Infineon; PartNumber: IPB65R380C6; Green: TRUE; ID (max): 10.6 A; IDpuls (max): 29 A; Polarity: N; Ptot (max): 83 W; QG: 39 nC; RDS (on) (max): 380 mOhm; Rth: 1.5 K/W; RthJA (max): 62 K/W; VDS (max): 650 V; VGS(th) (max): 3.5 V; VGS(th) (min): 2.5 V; DatasheetVersion: Rev. 2.0; PackageVersion: Jul-09; PackageReference: PG-TO263-3-2; PackageDescription: 3-Pin Plastic (Green) Transistor Single Outline Package, 10 x 9.25 mm Body, 2.54 mm Pitch; Supplier 1: Mouser; Supplier Part Number 1: 726-IPB65R380C6; Supplier 2: Digi-Key; Supplier Part Number 2: IPB65R380C6TR-ND; Supplier 3: Digi-Key; Supplier Part Number 3: IPB65R380C6CT-ND; Supplier 4: Digi-Key; Supplier Part Number 4: IPB65R380C6DKR-ND; Halogen-free: TRUE; Packing: Reel; RthJC (max): 1.5 K/W; Technology: CoolMOS C6; Mounting Technology: Surface Mount; ComponentLink1Description: Manufacturer URL; ComponentLink1URL: http://www.infineon.com/; ComponentLink2Description: Datasheet; ComponentLink2URL: http://www.infineon.com/dgdl/IPB65R380C6_2_0.pdf?folderId=db3a3043163797a6011637d4bae7003b&fileId=db3a30432ba3fa6f012bf2c39eee77ca; ComponentLink3Description: Package Specification; ComponentLink3URL: http://www.infineon.com/dgdl/BTS141TC_DS_10.pdf?folderId=db3a3043163797a6011667aa084c0e01&fileId=db3a3043242ebc9e01242f43f58b003e&location=en.Products.Automotive_ICs.Smart_High-_and_Low-Side_Switches.HITFET___TEMPFET__-_Smart_Low-Side_Switches.DATASHEET.BTS141TC_DS_10.pdf
footprint INF-PG-TO263-3-2_N (DPAK, 3-Leads, Body 10x9.25mm, Pitch 2.54mm, IPC Medium Density)
footprint INF-PG-TO263-3-2_L (DPAK, 3-Leads, Body 10x9.25mm, Pitch 2.54mm, IPC High Density)
footprint INF-PG-TO263-3-2_M (DPAK, 3-Leads, Body 10x9.25mm, Pitch 2.54mm, IPC Low Density)
pins: 1 GATE, 2 DRAIN, 3 SOURCE

## IPB65R420CFD
designator Q?
N-Channel CoolMOS CFD2 Power-Transistor, 650 V VDS, 8.7 A ID, -55 to 150 degC, PG-TO263-3-2, Reel, Green; Manufacturer: Infineon; PartNumber: IPB65R420CFD; Green: TRUE; ID (max): 8.7 A; IDpuls (max): 27 A; Polarity: N; QG: 32 nC; RDS (on) (max): 420 mOhm; Rth: 1.5 K/W; RthJA (max): 62 K/W; VDS (max): 650 V; VGS(th) (max): 4.5 V; VGS(th) (min): 3.5 V; DatasheetVersion: Rev. 2.4; PackageVersion: Jul-09; PackageReference: PG-TO263-3-2; PackageDescription: 3-Pin Plastic (Green) Transistor Single Outline Package, 10 x 9.25 mm Body, 2.54 mm Pitch; Supplier 1: Mouser; Supplier Part Number 1: 726-IPB65R420CFD; Supplier 2: Digi-Key; Supplier Part Number 2: IPB65R420CFDTR-ND; Supplier 3: Digi-Key; Supplier Part Number 3: IPB65R420CFDCT-ND; Supplier 4: Digi-Key; Supplier Part Number 4: IPB65R420CFDDKR-ND; Halogen-free: TRUE; Packing: Reel; RthJC (max): 1.5 K/W; Technology: CoolMOS CFD2; Mounting Technology: Surface Mount; ComponentLink1Description: Manufacturer URL; ComponentLink1URL: http://www.infineon.com/; ComponentLink2Description: Datasheet; ComponentLink2URL: http://www.infineon.com/dgdl/DS_IPX65R420CFD_2_4.pdf?folderId=db3a3043156fd5730115c736bcc70ff2&fileId=db3a30432f91014f012f9c293f1a7399; ComponentLink3Description: Package Specification; ComponentLink3URL: http://www.infineon.com/dgdl/BTS141TC_DS_10.pdf?folderId=db3a3043163797a6011667aa084c0e01&fileId=db3a3043242ebc9e01242f43f58b003e&location=en.Products.Automotive_ICs.Smart_High-_and_Low-Side_Switches.HITFET___TEMPFET__-_Smart_Low-Side_Switches.DATASHEET.BTS141TC_DS_10.pdf
footprint INF-PG-TO263-3-2_N (DPAK, 3-Leads, Body 10x9.25mm, Pitch 2.54mm, IPC Medium Density)
footprint INF-PG-TO263-3-2_L (DPAK, 3-Leads, Body 10x9.25mm, Pitch 2.54mm, IPC High Density)
footprint INF-PG-TO263-3-2_M (DPAK, 3-Leads, Body 10x9.25mm, Pitch 2.54mm, IPC Low Density)
pins: 1 GATE, 2 DRAIN, 3 SOURCE

## IPB65R600C6
designator Q?
N-Channel CoolMOS C6 Power-Transistor, 650 V VDS, 7.3 A ID, -55 to 150 degC, PG-TO263-3-2, Reel, Green; Manufacturer: Infineon; PartNumber: IPB65R600C6; Green: TRUE; ID (max): 7.3 A; IDpuls (max): 18 A; Polarity: N; Ptot (max): 63 W; QG: 23 nC; RDS (on) (max): 600 mOhm; Rth: 2 K/W; RthJA (max): 62 K/W; VDS (max): 650 V; VGS(th) (max): 3.5 V; VGS(th) (min): 2.5 V; DatasheetVersion: Rev. 2.0; PackageVersion: Jul-09; PackageReference: PG-TO263-3-2; PackageDescription: 3-Pin Plastic (Green) Transistor Single Outline Package, 10 x 9.25 mm Body, 2.54 mm Pitch; Supplier 1: Mouser; Supplier Part Number 1: 726-IPB65R600C6; Supplier 2: Digi-Key; Supplier Part Number 2: IPB65R600C6TR-ND; Supplier 3: Digi-Key; Supplier Part Number 3: IPB65R600C6CT-ND; Supplier 4: Digi-Key; Supplier Part Number 4: IPB65R600C6DKR-ND; Halogen-free: TRUE; Packing: Reel; RthJC (max): 2 K/W; Technology: CoolMOS C6; Mounting Technology: Surface Mount; ComponentLink1Description: Manufacturer URL; ComponentLink1URL: http://www.infineon.com/; ComponentLink2Description: Datasheet; ComponentLink2URL: http://www.infineon.com/dgdl/IPB65R600C6_2_0.pdf?folderId=db3a3043163797a6011637d4bae7003b&fileId=db3a30432ac1eb91012ac72f5ecc2c3f; ComponentLink3Description: Package Specification; ComponentLink3URL: http://www.infineon.com/dgdl/BTS141TC_DS_10.pdf?folderId=db3a3043163797a6011667aa084c0e01&fileId=db3a3043242ebc9e01242f43f58b003e&location=en.Products.Automotive_ICs.Smart_High-_and_Low-Side_Switches.HITFET___TEMPFET__-_Smart_Low-Side_Switches.DATASHEET.BTS141TC_DS_10.pdf
footprint INF-PG-TO263-3-2_N (DPAK, 3-Leads, Body 10x9.25mm, Pitch 2.54mm, IPC Medium Density)
footprint INF-PG-TO263-3-2_L (DPAK, 3-Leads, Body 10x9.25mm, Pitch 2.54mm, IPC High Density)
footprint INF-PG-TO263-3-2_M (DPAK, 3-Leads, Body 10x9.25mm, Pitch 2.54mm, IPC Low Density)
pins: 1 GATE, 2 DRAIN, 3 SOURCE

## IPB65R660CFD
designator Q?
N-Channel CoolMOS CFD2 Power-Transistor, 650 V VDS, 6 A ID, -55 to 150 degC, PG-TO263-3-2, Reel, Green; Manufacturer: Infineon; PartNumber: IPB65R660CFD; Green: TRUE; ID (max): 6 A; IDpuls (max): 17 A; Polarity: N; Ptot (max): 63 W; QG: 22 nC; RDS (on) (max): 660 mOhm; Rth: 2 K/W; RthJA (max): 62 K/W; VDS (max): 650 V; VGS(th) (max): 4.5 V; VGS(th) (min): 3.5 V; DatasheetVersion: Rev. 2.5; PackageVersion: Jul-09; PackageReference: PG-TO263-3-2; PackageDescription: 3-Pin Plastic (Green) Transistor Single Outline Package, 10 x 9.25 mm Body, 2.54 mm Pitch; Supplier 1: Mouser; Supplier Part Number 1: 726-IPB65R660CFD; Supplier 2: Digi-Key; Supplier Part Number 2: IPB65R660CFDTR-ND; Supplier 3: Digi-Key; Supplier Part Number 3: IPB65R660CFDCT-ND; Supplier 4: Digi-Key; Supplier Part Number 4: IPB65R660CFDDKR-ND; Halogen-free: TRUE; Packing: Reel; RthJC (max): 2 K/W; Technology: CoolMOS CFD2; Mounting Technology: Surface Mount; ComponentLink1Description: Manufacturer URL; ComponentLink1URL: http://www.infineon.com/; ComponentLink2Description: Datasheet; ComponentLink2URL: http://www.infineon.com/dgdl/DS_IPX65R660CFD_2_5.pdf?folderId=db3a3043163797a6011637d4e912003c&fileId=db3a30432e0bea21012e14dccc656df9; ComponentLink3Description: Package Specification; ComponentLink3URL: http://www.infineon.com/dgdl/BTS141TC_DS_10.pdf?folderId=db3a3043163797a6011667aa084c0e01&fileId=db3a3043242ebc9e01242f43f58b003e&location=en.Products.Automotive_ICs.Smart_High-_and_Low-Side_Switches.HITFET___TEMPFET__-_Smart_Low-Side_Switches.DATASHEET.BTS141TC_DS_10.pdf
footprint INF-PG-TO263-3-2_N (DPAK, 3-Leads, Body 10x9.25mm, Pitch 2.54mm, IPC Medium Density)
footprint INF-PG-TO263-3-2_L (DPAK, 3-Leads, Body 10x9.25mm, Pitch 2.54mm, IPC High Density)
footprint INF-PG-TO263-3-2_M (DPAK, 3-Leads, Body 10x9.25mm, Pitch 2.54mm, IPC Low Density)
pins: 1 GATE, 2 DRAIN, 3 SOURCE

## IPB65R660CFDA
designator Q?
N-Channel CoolMOS CFDA Power-Transistor, 650 V VDS, 6 A ID, -40 to 150 degC, PG-TO263-3-2, Reel, Green; Manufacturer: Infineon; PartNumber: IPB65R660CFDA; Green: TRUE; ID (max): 6 A; IDpuls (max): 17 A; Polarity: N; Ptot (max): 62.5 W; QG: 20 nC; RDS (on) (max): 660 mOhm; Rth: 2 K/W; RthJA (max): 62 K/W; VDS (max): 650 V; VGS(th) (max): 4.5 V; VGS(th) (min): 3.5 V; DatasheetVersion: Rev. 2.0; PackageVersion: Jul-09; PackageReference: PG-TO263-3-2; PackageDescription: 3-Pin Plastic (Green) Transistor Single Outline Package, 10 x 9.25 mm Body, 2.54 mm Pitch; Halogen-free: TRUE; Packing: Reel; RthJC (max): 2 K/W; Technology: CoolMOS CFDA; Mounting Technology: Surface Mount; ComponentLink1Description: Manufacturer URL; ComponentLink1URL: http://www.infineon.com/; ComponentLink2Description: Datasheet; ComponentLink2URL: http://www.infineon.com/dgdl/DS_IPX65R660CFDA_2_0.pdf?folderId=db3a3043163797a6011637d4bae7003b&fileId=db3a304336797ff90136bb242dbe2692; ComponentLink3Description: Package Specification; ComponentLink3URL: http://www.infineon.com/dgdl/BTS141TC_DS_10.pdf?folderId=db3a3043163797a6011667aa084c0e01&fileId=db3a3043242ebc9e01242f43f58b003e&location=en.Products.Automotive_ICs.Smart_High-_and_Low-Side_Switches.HITFET___TEMPFET__-_Smart_Low-Side_Switches.DATASHEET.BTS141TC_DS_10.pdf
footprint INF-PG-TO263-3-2_N (DPAK, 3-Leads, Body 10x9.25mm, Pitch 2.54mm, IPC Medium Density)
footprint INF-PG-TO263-3-2_L (DPAK, 3-Leads, Body 10x9.25mm, Pitch 2.54mm, IPC High Density)
footprint INF-PG-TO263-3-2_M (DPAK, 3-Leads, Body 10x9.25mm, Pitch 2.54mm, IPC Low Density)
pins: 1 GATE, 2 DRAIN, 3 SOURCE